# EAGLE library part P82B715 (library Sensors)
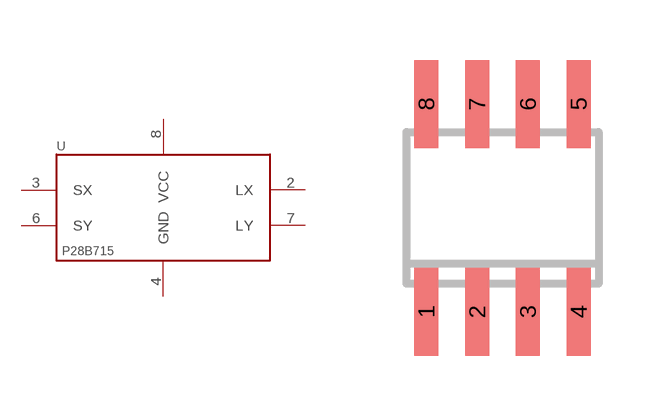
[diagram p3: symbol with the pads of SO8; footprint SO8]

Designator prefix -

## P82B715  [SO8]
2  LX
3  SX
4  GND
6  SY
7  LY
8  VCC

## Footprint SO8 (pad centres in mm)
SMALL OUTLINE INTEGRATED CIRCUIT SOP-8L Source: http://www.diodes.com/datasheets/ds31262.pdf
smd 0.6 x 2.2: 1 -1.905,-2.6; 2 -0.635,-2.6; 3 0.635,-2.6; 4 1.905,-2.6; 5 1.905,2.6; 6 0.635,2.6; 7 -0.635,2.6; 8 -1.905,2.6